# EAGLE library part CD4024B (library ElectricNoodleBox)
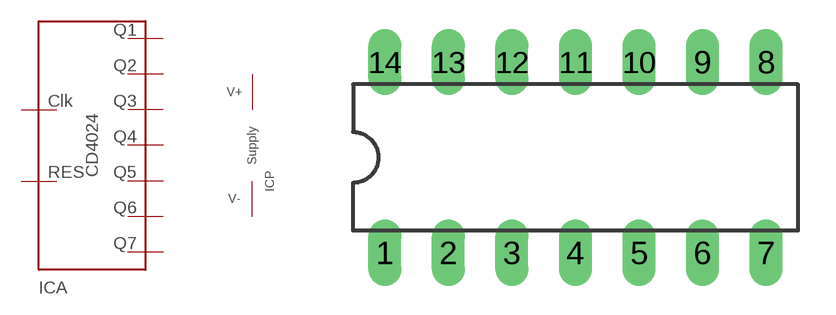
[diagram p16: symbol with the pads of DIL14; footprint DIL14]

Designator prefix IC; gates A=CD4024 P=SUPPLYPINS

## CD4024BDIL  [DIL14]
1  A:CLK  in
2  A:RESET  in
3  A:Q7
4  A:Q6  out
5  A:Q5  out
6  A:Q4  out
7  P:V-
9  A:Q3  out
11  A:Q2  out
12  A:Q1  out
14  P:V+

## Footprint DIL14 (pad centres in mm)
Dual In Line Package
drill 0.813 long: 1 -7.62,-3.81; 2 -5.08,-3.81; 3 -2.54,-3.81; 4 0,-3.81; 5 2.54,-3.81; 6 5.08,-3.81; 7 7.62,-3.81; 8 7.62,3.81; 9 5.08,3.81; 10 2.54,3.81; 11 0,3.81; 12 -2.54,3.81; 13 -5.08,3.81; 14 -7.62,3.81